# Altium schematic symbol library SCH - MCU - ATSAM - MICROCHIP SAMD09C13A-SSU SOIC14.SchLib: 1 symbol
Pins are listed as number, name and electrical type; pins without a type are passive.

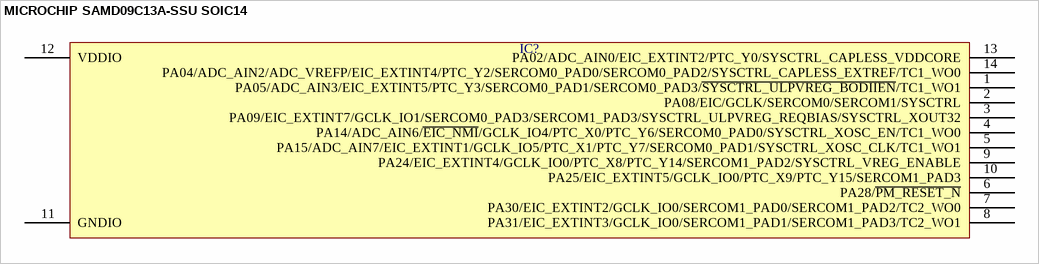
[diagram p0: symbol MICROCHIP SAMD09C13A-SSU SOIC14]

## MICROCHIP SAMD09C13A-SSU SOIC14
designator IC?  (value not drawn)
pins: 1 PA05/ADC_AIN3/EIC_EXTINT5/PTC_Y3/SERCOM0_PAD1/SERCOM0_PAD3/~{SYSCTRL_ULPVREG_BODIIEN}/TC1_WO1, 2 PA08/EIC/GCLK/SERCOM0/SERCOM1/SYSCTRL, 3 PA09/EIC_EXTINT7/GCLK_IO1/SERCOM0_PAD3/SERCOM1_PAD3/SYSCTRL_ULPVREG_REQBIAS/SYSCTRL_XOUT32, 4 PA14/ADC_AIN6/~{EIC_NMI}/GCLK_IO4/PTC_X0/PTC_Y6/SERCOM0_PAD0/SYSCTRL_XOSC_EN/TC1_WO0, 5 PA15/ADC_AIN7/EIC_EXTINT1/GCLK_IO5/PTC_X1/PTC_Y7/SERCOM0_PAD1/SYSCTRL_XOSC_CLK/TC1_WO1, 6 PA28/~{PM_RESET_N}, 7 PA30/EIC_EXTINT2/GCLK_IO0/SERCOM1_PAD0/SERCOM1_PAD2/TC2_WO0, 8 PA31/EIC_EXTINT3/GCLK_IO0/SERCOM1_PAD1/SERCOM1_PAD3/TC2_WO1, 9 PA24/EIC_EXTINT4/GCLK_IO0/PTC_X8/PTC_Y14/SERCOM1_PAD2/SYSCTRL_VREG_ENABLE, 10 PA25/EIC_EXTINT5/GCLK_IO0/PTC_X9/PTC_Y15/SERCOM1_PAD3, 11 GNDIO, 12 VDDIO, 13 PA02/ADC_AIN0/EIC_EXTINT2/PTC_Y0/SYSCTRL_CAPLESS_VDDCORE, 14 PA04/ADC_AIN2/ADC_VREFP/EIC_EXTINT4/PTC_Y2/SERCOM0_PAD0/SERCOM0_PAD2/SYSCTRL_CAPLESS_EXTREF/TC1_WO0